# Altium footprint library PcbLib_Sword.PcbLib: 35 footprints (part 3 of 3)
Each footprint in its own frame and in the unit in brackets; x right, y up, seen from the top. Pads: shape width x height; smd on the part's side, far side on the other; paste and mask are expansions set on the pad; w line width, h text height; cw(c..) or ccw(c..) is an arc to the next point about the centre after c.
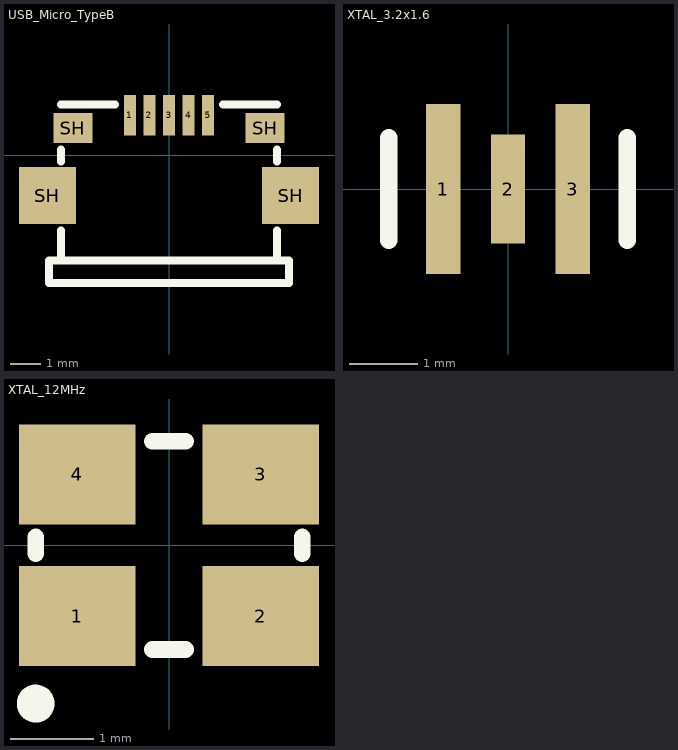
[diagram p2: the footprints below, top view; thin cyan lines are the x and y axes]

## USB_Micro_TypeB [mm]
pads (9):
  rect 0.4x1.35 smd: 1(-1.3,1.338) 2(-0.65,1.338) 3(0,1.338) 4(0.65,1.338) 5(1.3,1.338)
  rect 1.9x1.9 smd: SH(-4.05,-1.338) SH(4.05,-1.338)
  rect 1.3x1 smd: SH(-3.2,0.913) SH(3.2,0.913)
Top Overlay:
  lines w0.254: -3.65,-3.5 -4,-3.5 -4,-4.25 4,-4.25 4,-3.5 3.6,-3.5 ; -3.6,-3.5 3.6,-3.5 ; -3.6,-3.45 -3.6,-2.5 ; -3.6,-0.2 -3.6,0.2 ; -3.6,1.7 -1.8,1.7 ; 1.8,1.7 3.6,1.7 ; 3.6,-2.5 3.6,-3.5 ; 3.6,-0.2 3.6,0.2
3D body "USB.STEP": height 2.79, standoff -0.78, extent -4,-4 4,1.6

## XTAL_3.2x1.6 [mm]
pads (3):
  rect 0.5x2.5 smd: 1(-0.95,0) 3(0.95,0)
  rect 0.5x1.6 smd: 2(0,0)
Top Overlay:
  lines w0.254: -1.75,-0.75 -1.75,0.75 ; 1.75,-0.75 1.75,0.75

## XTAL_12MHz [mm]
pads (4):
  rect 1.4x1.2 smd: 1(-1.1,-0.85) 2(1.1,-0.85) 3(1.1,0.85) 4(-1.1,0.85)
Top Overlay:
  circle w0.254: c-1.6,-1.9 r0.1
  lines w0.2: -1.6,-0.1 -1.6,0.1 ; -0.2,-1.25 0.2,-1.25 ; -0.2,1.25 0.2,1.25 ; 1.6,-0.1 1.6,0.1